# Altium footprint library FTDI.PcbLib: 2 footprints
Each footprint in its own frame and in the unit in brackets; x right, y up, seen from the top. Pads: shape width x height; smd on the part's side, far side on the other; paste and mask are expansions set on the pad; w line width, h text height; cw(c..) or ccw(c..) is an arc to the next point about the centre after c.
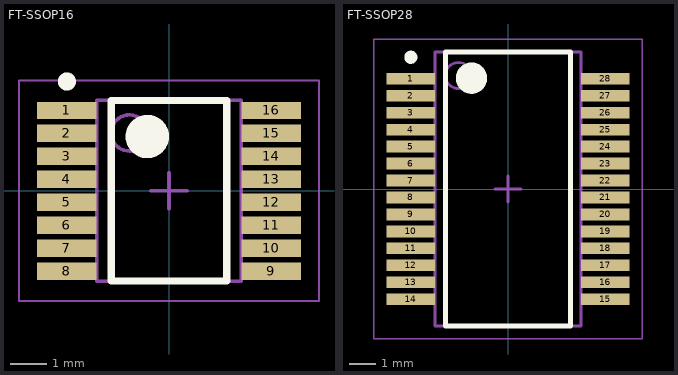
[diagram p0: the footprints below, top view; thin cyan lines are the x and y axes]

## FT-SSOP16 [mm] "SOP, 16-Leads, Body 4.90x3.90mm, Pitch 0.64mm, IPC Low Density"
height 1.76
pads (16):
  rect 1.65x0.48 smd: 1(-2.825,2.222) 2(-2.825,1.587) 3(-2.825,0.953) 4(-2.825,0.318) 5(-2.825,-0.318) 6(-2.825,-0.953) 7(-2.825,-1.587) 8(-2.825,-2.222) 9(2.825,-2.222) 10(2.825,-1.587) 11(2.825,-0.953) 12(2.825,-0.318) 13(2.825,0.318) 14(2.825,0.953) 15(2.825,1.587) 16(2.825,2.222)
Top Overlay:
  circle w0.6: c-0.6,1.5 r0.3
  circle w0.25: c-2.825,3.023 r0.125
  lines w0.2: -1.6,-2.5 1.6,-2.5 1.6,2.5 -1.6,2.5 -1.6,-2.5
Mechanical 13:
  circle w0.1: c-1.1,1.6 r0.5
  lines w0.1: -2,-2.5 2,-2.5 2,2.5 -2,2.5 -2,-2.5
Mechanical 15:
  lines w0.05: -4.15,-3.05 4.15,-3.05 4.15,3.05 -4.15,3.05 -4.15,-3.05
  lines w0.1: -0.5,0 0.5,0 ; 0,-0.5 0,0.5
3D body "FT-SSOP16.step": height 1.75, standoff 0, extent -2.997,-2.5 2.997,2.5

## FT-SSOP28 [mm] "SOP, 28-Leads, Body 10.20x5.30mm, Pitch 0.65mm, IPC Low Density"
height 2
pads (28):
  rect 1.85x0.45 smd: 1(-3.725,4.225) 2(-3.725,3.575) 3(-3.725,2.925) 4(-3.725,2.275) 5(-3.725,1.625) 6(-3.725,0.975) 7(-3.725,0.325) 8(-3.725,-0.325) 9(-3.725,-0.975) 10(-3.725,-1.625) 11(-3.725,-2.275) 12(-3.725,-2.925) 13(-3.725,-3.575) 14(-3.725,-4.225) 15(3.725,-4.225) 16(3.725,-3.575) 17(3.725,-2.925) 18(3.725,-2.275) 19(3.725,-1.625) 20(3.725,-0.975) 21(3.725,-0.325) 22(3.725,0.325) 23(3.725,0.975) 24(3.725,1.625) 25(3.725,2.275) 26(3.725,2.925) 27(3.725,3.575) 28(3.725,4.225)
Top Overlay:
  circle w0.6: c-1.4,4.25 r0.3
  circle w0.25: c-3.725,5.05 r0.125
  lines w0.2: -2.4,-5.25 2.4,-5.25 2.4,5.25 -2.4,5.25 -2.4,-5.25
Mechanical 13:
  circle w0.1: c-1.9,4.35 r0.5
  lines w0.1: -2.8,-5.25 2.8,-5.25 2.8,5.25 -2.8,5.25 -2.8,-5.25
Mechanical 15:
  lines w0.05: -5.15,-5.75 5.15,-5.75 5.15,5.75 -5.15,5.75 -5.15,-5.75
  lines w0.1: -0.5,0 0.5,0 ; 0,-0.5 0,0.5
3D body: height 2, standoff 0.05, extent -2.8,-5.25 2.8,5.25